# Altium integrated library WE-SUKW SMD EMI Suppression 5-Hole Ferrite Bead.IntLib: 2 symbols
Pins are listed as number, name and electrical type; pins without a type are passive.

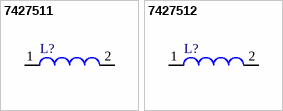
[diagram p0: symbols 7427511 to 7427512]

## 7427511
designator L?
EMI Suppression 5-Hole Ferrite Bead WE-SUKW, Z = 416 Ohm; PartNumber: 7427511; Impedance: 416 Ohm; DatasheetVersion: ver 6, Jun - 2007; PackageReference: WE-SUKW-7427511; PackageDescription: Inductor, 2-Leads, Body 5.5 x 5.0 mm; ComponentLink1Description: Manufacturer URL; ComponentLink1URL: http://www.we-online.com; ComponentLink2Description: Datasheet; ComponentLink2URL: http://www.we-online.de/katalog/media/pdf/7427511.pdf
footprint WE-SUKW-7427511 (Inductor, 2-Leads, Body 5.5x5.0x5.1 mm)
pins: 1, 2

## 7427512
designator L?
EMI Suppression 5-Hole Ferrite Bead WE-SUKW, Z = 580 Ohm; PartNumber: 7427512; Impedance: 580 Ohm; DatasheetVersion: ver 6, Jun - 2007; PackageReference: WE-SUKW-7427512; PackageDescription: Inductor, 2-Leads, Body 8.5 x 4.65 mm; ComponentLink1Description: Manufacturer URL; ComponentLink1URL: http://www.we-online.com; ComponentLink2Description: Datasheet; ComponentLink2URL: http://www.we-online.de/katalog/media/pdf/7427512.pdf
footprint WE-SUKW-7427512 (Inductor, 2-Leads, Body 8.5x4.65x5.5 mm)
pins: 1, 2